# EAGLE library part Q-154819 (library con-erni)
Male Connector SMC-Q 26 contacts Type 7-13 - Low Profile Source: http://www.erni.com/DB/PDF-Drawing/SMC/154819.pdf
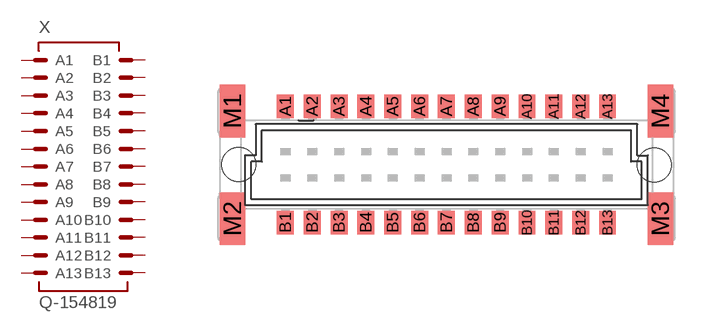
[diagram p11: symbol with the pads of 154819; footprint 154819]

Designator prefix X

## Q-154819  [154819]
A1  A1  pas
A2  A2  pas
A3  A3  pas
A4  A4  pas
A5  A5  pas
A6  A6  pas
A7  A7  pas
A8  A8  pas
A9  A9  pas
A10  A10  pas
A11  A11  pas
A12  A12  pas
A13  A13  pas
B1  B1  pas
B2  B2  pas
B3  B3  pas
B4  B4  pas
B5  B5  pas
B6  B6  pas
B7  B7  pas
B8  B8  pas
B9  B9  pas
B10  B10  pas
B11  B11  pas
B12  B12  pas
B13  B13  pas

## Footprint 154819 (pad centres in mm)
Male Connector SMC-Q 26 contacts Type 7-13 - Low Profile Source: http://www.erni.com/DB/PDF-Drawing/SMC/154819.pdf
smd 0.8 x 1.1: A1 -7.62,2.765; A2 -6.35,2.765; A3 -5.08,2.765; A4 -3.81,2.765; A5 -2.54,2.765; A6 -1.27,2.765; A7 0,2.765; A8 1.27,2.765; A9 2.54,2.765; A10 3.81,2.765; A11 5.08,2.765; A12 6.35,2.765; A13 7.62,2.765; B1 -7.62,-2.74; B2 -6.35,-2.74; B3 -5.08,-2.74; B4 -3.81,-2.74; B5 -2.54,-2.74; B6 -1.27,-2.74; B7 0,-2.74; B8 1.27,-2.74; B9 2.54,-2.74; B10 3.81,-2.74; B11 5.08,-2.74; B12 6.35,-2.74; B13 7.62,-2.74
smd 1.2 x 2.5: M1 -10.125,2.55; M2 -10.125,-2.55; M3 10.125,-2.55; M4 10.125,2.55